# Altium footprint library Конденсаторы электролитические.PcbLib: 21 footprints (part 2 of 2)
Each footprint in its own frame and in the unit in brackets; x right, y up, seen from the top. Pads: shape width x height; smd on the part's side, far side on the other; paste and mask are expansions set on the pad; w line width, h text height; cw(c..) or ccw(c..) is an arc to the next point about the centre after c.
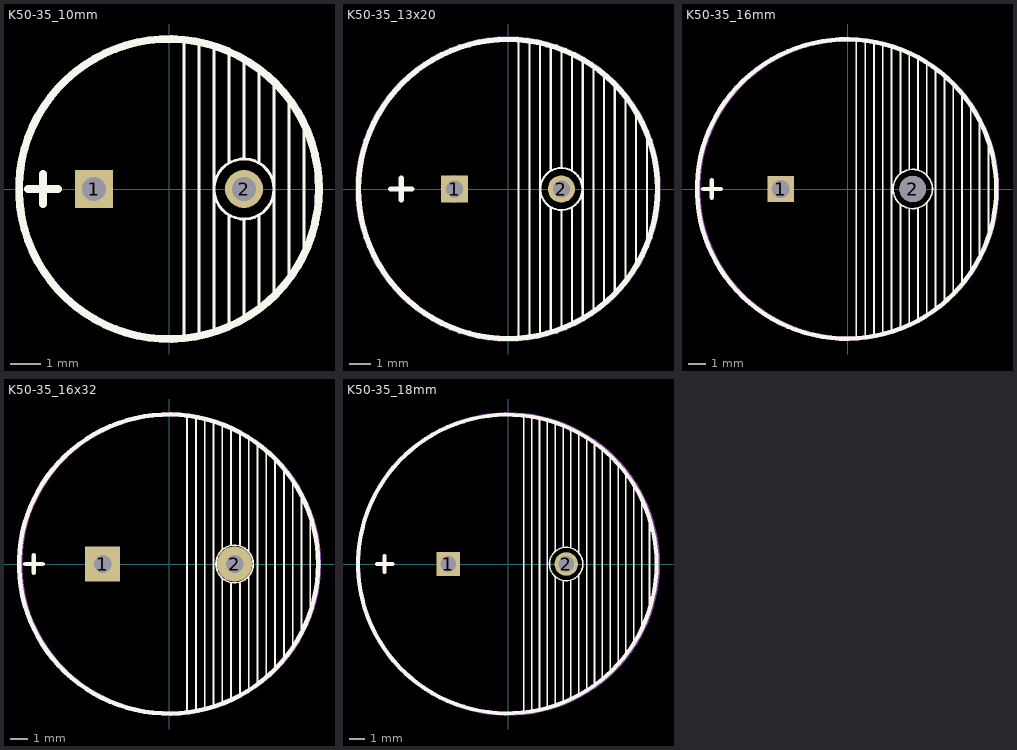
[diagram p1: the footprints below, top view; thin cyan lines are the x and y axes]

## K50-35_10mm [mm]
pads (2):
  rect 1.27x1.27 hole 0.8: 1(-2.5,0)
  round 1.27 hole 0.8: 2(2.5,0)
Top Overlay:
  circle w0.1: c2.5,0 r1
  circle w0.254: c0,0 r5
  lines w0.1: 0.5,-5 0.5,-3.6 0.5,5 ; 1,-4.9 1,4.9 ; 1.5,-4.8 1.5,4.7 ; 2,-4.6 2,-0.9 ; 2,0.9 2,4.6 ; 2.5,-4.3 2.5,-1 ; 2.5,1 2.5,4.3 ; 3,-4 3,-0.9 ; 3,0.9 3,4 ; 3.5,-3.6 3.5,3.5 ; 4,-3.1 4,3.1 ; 4.5,-2.3 4.5,2.2
  lines w0.254: -4.7,0 -3.7,0 ; -4.2,-0.5 -4.2,0.5
ASSEMBLY_TOP:
  circle w0.254: c0,0 r5
  lines w0.1: -3,0 -2,0 ; -2.5,-0.5 -2.5,0.5
  text ".Designator" at -0.8,1.6 h1.52
3D body "User Library-Cap electrolitic radial 10x13.STEP": height 13.3, standoff -1.2, extent -4.998,-4.999 4.998,4.998

## K50-35_13x20 [mm]
pads (2):
  rect 1.27x1.27 hole 0.8: 1(-2.5,0)
  round 1.27 hole 0.8: 2(2.5,0)
Top Overlay:
  circle w0.1: c2.5,0 r0.985
  circle w0.254: c0,0 r7
  lines w0.1: 0.5,-7 0.5,7 ; 1,-6.9 1,6.9 ; 1.5,-6.8 1.5,6.8 ; 2,-6.7 2,-0.9 ; 2,0.9 2,6.7 ; 2.5,-6.5 2.5,-1 ; 2.5,1 2.5,6.6 ; 3,-6.3 3,-0.9 ; 3,0.9 3,6.3 ; 3.5,-6 3.5,6 ; 4,-5.7 4,5.7 ; 4.5,-5.4 4.5,5.3 ; 5,-4.8 5,4.8 ; 5.5,-4.3 5.5,4.3 ; 6,-3.5 6,3.6 ; 6.5,-2.5 6.5,2.5
  lines w0.254: -5.5,0 -4.5,0 ; -5,-0.5 -5,0.5
ASSEMBLY_TOP:
  circle w0.254: c0,0 r7.024
  lines w0.1: -3.1,0 -1.9,0 ; -2.5,-0.6 -2.5,0.6
  text ".Designator" at -0.8,0.9 h1.52
3D body "User Library-Cap electrolitic radial 13x20.STEP": height 20.8, standoff -0.7, extent -6.498,-6.499 6.498,6.499

## K50-35_16mm [mm]
pads (2):
  rect 1.5x1.5 hole 1: 1(-3.8,0)
  round 1.5 hole 1.5: 2(3.7,0)
Top Overlay:
  circle w0.1: c3.7,0 r1.118
  circle w0.254: c-0.05,0 r8.5
  lines w0.1: 0.5,-8.5 0.5,8.5 ; 1,-8.4 1,8.4 ; 1.5,-8.4 1.5,8.4 ; 2,-8.3 2,8.2 ; 2.5,-8.1 2.5,8.1 ; 3,-7.9 3,-0.9 ; 3,0.9 3,7.9 ; 3.5,-7.7 3.5,-1.1 ; 3.5,1.1 3.5,7.7 ; 4,-7.4 4,-1.1 ; 4,1.1 4,7.5 ; 4.5,-7.1 4.5,-0.8 ; 4.5,0.8 4.5,7.2 ; 5,-6.8 5,6.8 ; 5.5,-6.4 5.5,6.4 ; 6,-6 6,5.9 ; 6.5,-5.4 6.5,5.3 ; 7,-4.7 7,4.7 ; 7.5,-3.8 7.5,3.8 ; 8,-2.6 8,2.7
  lines w0.254: -8.2,0 -7.2,0 ; -7.7,-0.5 -7.7,0.5
ASSEMBLY_TOP:
  circle w0.254: c0,0 r8.486
  lines w0.1: -4.5,0 -3.1,0 ; -3.8,-0.7 -3.8,0.7
  text ".Designator" at -1.1,-1.9 h1.52
3D body "User Library-Cap electrolitic radial 16x31.STEP": height 31.8, standoff -0.7, extent -7.997,-7.997 7.997,7.999

## K50-35_16x32 [mm]
pads (2):
  rect 2x2 hole 1: 1(-3.8,0)
  round 2 hole 1: 2(3.7,0)
Top Overlay:
  circle w0.254: c-0.05,0 r8.5
  circle w0.1: c3.7,0 r1.063
  lines w0.1: 1,-8.5 1,8.4 ; 1.5,-8.3 1.5,8.3 ; 2,-8.3 2,8.2 ; 2.5,-8.1 2.5,8.1 ; 3,-7.9 3,-0.8 ; 3,0.8 3,7.9 ; 3.5,-7.7 3.5,-1.1 ; 3.5,1.1 3.5,7.7 ; 4,-7.4 4,-1.1 ; 4,1.1 4,7.4 ; 4.5,-7.2 4.5,-0.7 ; 4.5,0.7 4.5,7.1 ; 5,-6.9 5,6.7 ; 5.5,-6.4 5.5,6.4 ; 6,-6 6,6 ; 6.5,-5.4 6.5,5.4 ; 7,-4.7 7,4.6 ; 7.5,-3.8 7.5,3.8 ; 8,-2.6 8,2.5
  lines w0.254: -8.2,0 -7.2,0 ; -7.7,-0.5 -7.7,0.5
ASSEMBLY_TOP:
  circle w0.254: c0,0 r8.496
  lines w0.1: -4.4,0 -3.2,0 ; -3.8,-0.6 -3.8,0.6
3D body "User Library-Cap electrolitic radial 16x31.STEP": height 31.8, standoff -0.7, extent -7.997,-7.997 7.997,7.999

## K50-35_18mm [mm]
pads (2):
  rect 1.5x1.5 hole 1: 1(-3.8,0)
  round 1.5 hole 1: 2(3.7,0)
Top Overlay:
  circle w0.1: c3.7,0 r1.063
  circle w0.254: c-0.05,0 r9.5
  lines w0.1: 1,-9.5 1,9.4 ; 1.5,-9.4 1.5,9.4 ; 2,-9.3 2,9.2 ; 2.5,-9.1 2.5,9.1 ; 3,-8.9 3,-0.8 ; 3,0.8 3,9 ; 3.5,-8.8 3.5,-1.1 ; 3.5,1.1 3.5,8.8 ; 4,-8.5 4,-1.1 ; 4,1.1 4,8.5 ; 4.5,-8.4 4.5,-0.7 ; 4.5,0.7 4.5,8.3 ; 5,-8 5,8 ; 5.5,-7.7 5.5,7.6 ; 6,-7.3 6,7.3 ; 6.5,-6.9 6.5,6.9 ; 7,-6.4 7,6.4 ; 7.5,-5.8 7.5,5.6 ; 8,-5 8,4.9 ; 8.5,-4.1 8.5,4.1 ; 9,-2.7 9,2.6
  lines w0.254: -8.35,0 -7.35,0 ; -7.85,-0.5 -7.85,0.5
ASSEMBLY_TOP:
  circle w0.254: c0,0 r9.543
  lines w0.1: -4.4,0 -3.2,0 ; -3.8,-0.6 -3.8,0.6
  text ".Designator" at -1.4,-2.4 h1.52
3D body "K50-35_18x25.step": height 24.75, standoff -4.9, extent -9.058,-9.004 8.987,9.004